# Altium integrated library Microchip Microcontroller 8-Bit PIC16 2.IntLib: 1656 symbols (part 26 of 56)
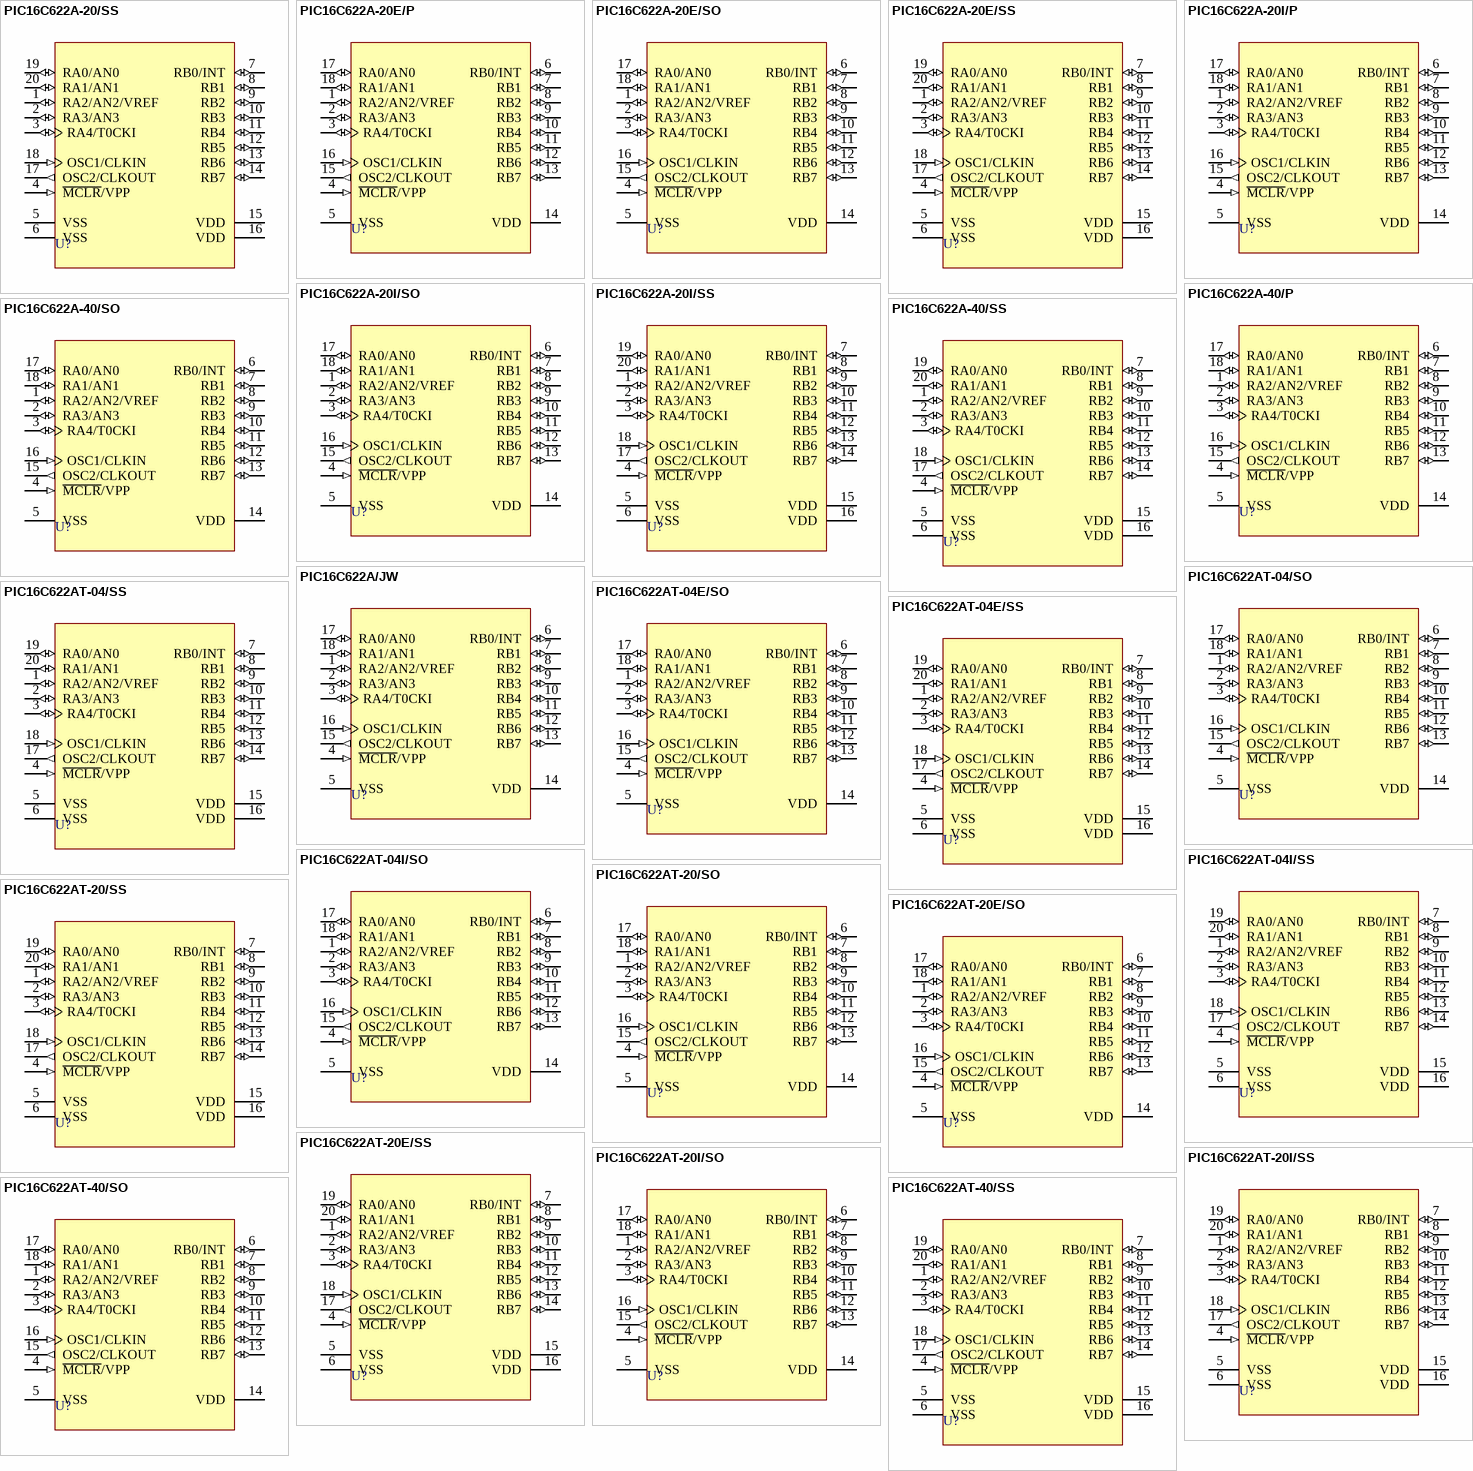
[diagram p133: symbols PIC16C622A-20/SS to PIC16C622AT-40/SS]

## PIC16C622AT-40/SS
designator U?
EPROM-Based 8-Bit CMOS Microcontroller, 128 Bytes RAM, 13 I/O pins, 20-Pin SSOP, 4.5 to 5.5V Supply Range, Commercial Temperature, Tape and Reel; Note: Verify oscillator characteristics if changing from this device to another.; Note: All PIC16C62X Family devices use serial programming with clock pin RB6 and data pin RB7.; Published: 11-Oct-2004; LatestRevisionDate: 04-Mar-2005; LatestRevisionNote: Stylized 3D Model Added.; DatasheetVersion: DS30235J_2003; PackageVersion: 2003; PackageReference: SSOP-20; Publisher: Altium Limited; PackageDescription: SSOP, Plastic; 20 Leads; Body Width 5.3 mm; Pitch 0.65 mm; Code_JEDEC: MO-150; ComponentLink1Description: Manufacturer Link; ComponentLink1URL: http://www.microchip.com; ComponentLink2Description: Datasheet; ComponentLink2URL: http://ww1.microchip.com/downloads/en/DeviceDoc/30235j.pdf; ComponentLink3Description: Packaging Specification; ComponentLink3URL: http://ww1.microchip.com/downloads/en/PackagingSpec/00049AD.pdf
footprint SSOP-20 (SSOP, Plastic; 20 Leads; Body Width 5.3 mm; Pitch 0.65 mm)
3D model SSOP-20 (SSOP, Plastic; 20 Leads; Body Width 5.3 mm; Pitch 0.65 mm)
pins: 1 RA2/AN2/VREF (io), 2 RA3/AN3 (io), 3 RA4/T0CKI (io), 4 ~{MCLR}/VPP (in), 5 VSS (power), 6 VSS (power), 7 RB0/INT (io), 8 RB1 (io), 9 RB2 (io), 10 RB3 (io), 11 RB4 (io), 12 RB5 (io), 13 RB6 (io), 14 RB7 (io), 15 VDD (power), 16 VDD (power), 17 OSC2/CLKOUT (out), 18 OSC1/CLKIN (in), 19 RA0/AN0 (io), 20 RA1/AN1 (io)

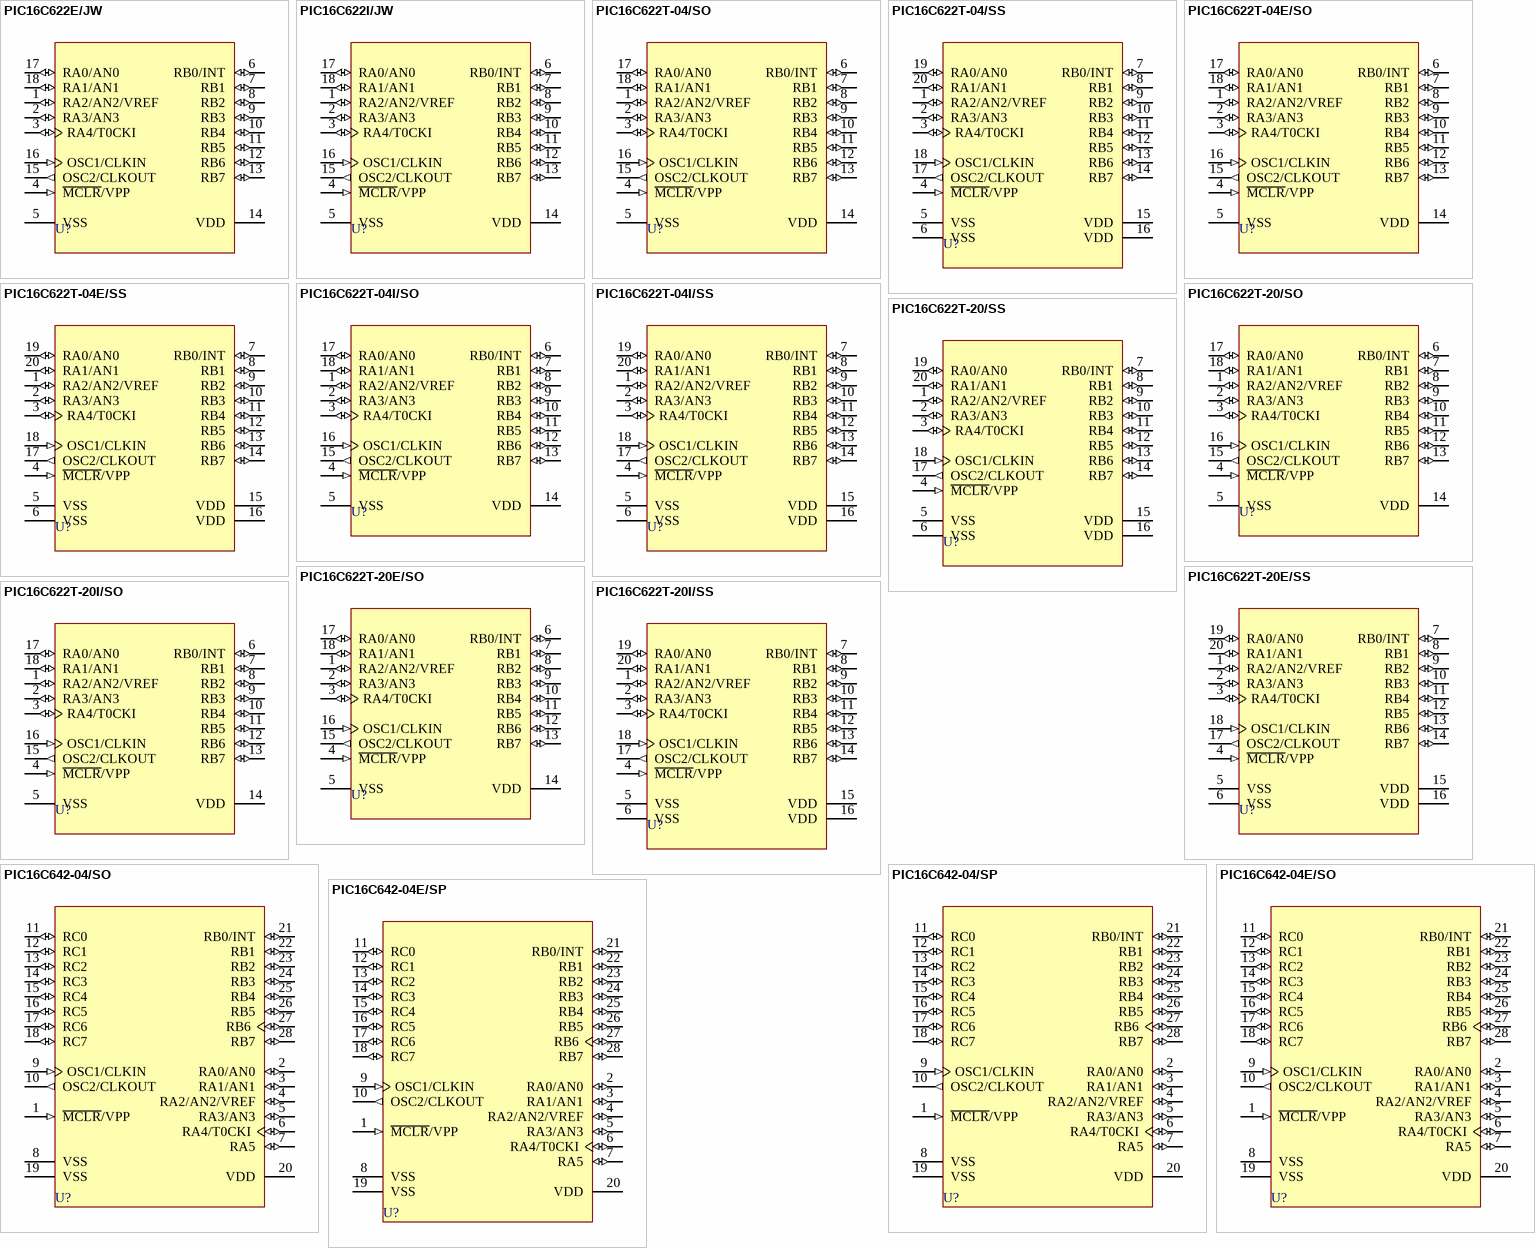
[diagram p47: symbols PIC16C622E/JW to PIC16C642-04E/SP]

## PIC16C622E/JW
designator U?
EPROM-Based 8-Bit CMOS Microcontroller; Note: Not recommended for new designs. Consider PIC16C622A instead.; Published: 8-Jun-2000; LatestRevisionDate: 04-Mar-2005; LatestRevisionNote: Stylized 3D Model Added.; DatasheetVersion: DS30235G_1998; PackageVersion: 2003; PackageReference: CERDIP300W-18; Publisher: Altium Limited; PackageDescription: CerDIP, Window; 18 Leads; Row Spacing 7.62 mm; Pitch 2.54 mm; Code_JEDEC: MO-036; ComponentLink1Description: Manufacturer Link; ComponentLink1URL: http://www.microchip.com; ComponentLink2Description: Datasheet; ComponentLink2URL: http://ww1.microchip.com/downloads/en/DeviceDoc/30235j.pdf; ComponentLink3Description: Packaging Specification; ComponentLink3URL: http://ww1.microchip.com/downloads/en/PackagingSpec/00049AD.pdf
footprint CERDIP300W-18 (CerDIP, Window; 18 Leads; Row Spacing 7.62 mm; Pitch 2.54 mm)
3D model CERDIP300W-18 (CerDIP, Window; 18 Leads; Row Spacing 7.62 mm; Pitch 2.54 mm)
pins: 1 RA2/AN2/VREF (io), 2 RA3/AN3 (io), 3 RA4/T0CKI (io), 4 ~{MCLR}/VPP (in), 5 VSS (power), 6 RB0/INT (io), 7 RB1 (io), 8 RB2 (io), 9 RB3 (io), 10 RB4 (io), 11 RB5 (io), 12 RB6 (io), 13 RB7 (io), 14 VDD (power), 15 OSC2/CLKOUT (out), 16 OSC1/CLKIN (in), 17 RA0/AN0 (io), 18 RA1/AN1 (io)

## PIC16C622I/JW
designator U?
EPROM-Based 8-Bit CMOS Microcontroller; Note: Not recommended for new designs. Consider PIC16C622A instead.; Published: 8-Jun-2000; LatestRevisionDate: 04-Mar-2005; LatestRevisionNote: Stylized 3D Model Added.; DatasheetVersion: DS30235G_1998; PackageVersion: 2003; PackageReference: CERDIP300W-18; Publisher: Altium Limited; PackageDescription: CerDIP, Window; 18 Leads; Row Spacing 7.62 mm; Pitch 2.54 mm; Code_JEDEC: MO-036; ComponentLink1Description: Manufacturer Link; ComponentLink1URL: http://www.microchip.com; ComponentLink2Description: Datasheet; ComponentLink2URL: http://ww1.microchip.com/downloads/en/DeviceDoc/30235j.pdf; ComponentLink3Description: Packaging Specification; ComponentLink3URL: http://ww1.microchip.com/downloads/en/PackagingSpec/00049AD.pdf
footprint CERDIP300W-18 (CerDIP, Window; 18 Leads; Row Spacing 7.62 mm; Pitch 2.54 mm)
3D model CERDIP300W-18 (CerDIP, Window; 18 Leads; Row Spacing 7.62 mm; Pitch 2.54 mm)
pins: 1 RA2/AN2/VREF (io), 2 RA3/AN3 (io), 3 RA4/T0CKI (io), 4 ~{MCLR}/VPP (in), 5 VSS (power), 6 RB0/INT (io), 7 RB1 (io), 8 RB2 (io), 9 RB3 (io), 10 RB4 (io), 11 RB5 (io), 12 RB6 (io), 13 RB7 (io), 14 VDD (power), 15 OSC2/CLKOUT (out), 16 OSC1/CLKIN (in), 17 RA0/AN0 (io), 18 RA1/AN1 (io)

## PIC16C622T-04/SO
designator U?
EPROM-Based 8-Bit CMOS Microcontroller, 128 Bytes RAM, 13 I/O pins, 18-Pin SOIC, 3.0 to 6.0V Supply Range, Commercial Temperature, Tape and Reel; Note: Verify oscillator characteristics if changing from this device to another.; Note: All PIC16C62X Family devices use serial programming with clock pin RB6 and data pin RB7.; Note: Not recommended for new designs. Consider PIC16C622A instead.; Published: 11-Oct-2004; LatestRevisionDate: 13-Apr-2006; LatestRevisionNote: IPC-7351 Footprint Added.; DatasheetVersion: DS30235J_2003; PackageVersion: 2003; PackageReference: SOIC300-18; Publisher: Altium Limited; PackageDescription: 18-Pin Small Outline Integrated Circuit 1.27 mm Pitch; Code_JEDEC: MS-013; ComponentLink1Description: Manufacturer Link; ComponentLink1URL: http://www.microchip.com; ComponentLink2Description: Datasheet; ComponentLink2URL: http://ww1.microchip.com/downloads/en/DeviceDoc/30235j.pdf; ComponentLink3Description: Packaging Specification; ComponentLink3URL: http://ww1.microchip.com/downloads/en/PackagingSpec/00049AD.pdf
footprint SOIC300-18_N (SOIC, 18-Leads, Body 11.5x7.5mm, Pitch 1.27mm, IPC Medium Density)
footprint SOIC300-18_L (SOIC, 18-Leads, Body 11.5x7.5mm, Pitch 1.27mm, IPC High Density)
footprint SOIC300-18_M (SOIC, 18-Leads, Body 11.5x7.5mm, Pitch 1.27mm, IPC Low Density)
3D model SOIC300-18 (18-Pin Small Outline Integrated Circuit 1.27 mm Pitch)
pins: 1 RA2/AN2/VREF (io), 2 RA3/AN3 (io), 3 RA4/T0CKI (io), 4 ~{MCLR}/VPP (in), 5 VSS (power), 6 RB0/INT (io), 7 RB1 (io), 8 RB2 (io), 9 RB3 (io), 10 RB4 (io), 11 RB5 (io), 12 RB6 (io), 13 RB7 (io), 14 VDD (power), 15 OSC2/CLKOUT (out), 16 OSC1/CLKIN (in), 17 RA0/AN0 (io), 18 RA1/AN1 (io)

## PIC16C622T-04/SS
designator U?
EPROM-Based 8-Bit CMOS Microcontroller, 128 Bytes RAM, 13 I/O pins, 20-Pin SSOP, 3.0 to 6.0V Supply Range, Commercial Temperature, Tape and Reel; Note: Verify oscillator characteristics if changing from this device to another.; Note: All PIC16C62X Family devices use serial programming with clock pin RB6 and data pin RB7.; Note: Not recommended for new designs. Consider PIC16C622A instead.; Published: 11-Oct-2004; LatestRevisionDate: 04-Mar-2005; LatestRevisionNote: Stylized 3D Model Added.; DatasheetVersion: DS30235J_2003; PackageVersion: 2003; PackageReference: SSOP-20; Publisher: Altium Limited; PackageDescription: SSOP, Plastic; 20 Leads; Body Width 5.3 mm; Pitch 0.65 mm; Code_JEDEC: MO-150; ComponentLink1Description: Manufacturer Link; ComponentLink1URL: http://www.microchip.com; ComponentLink2Description: Datasheet; ComponentLink2URL: http://ww1.microchip.com/downloads/en/DeviceDoc/30235j.pdf; ComponentLink3Description: Packaging Specification; ComponentLink3URL: http://ww1.microchip.com/downloads/en/PackagingSpec/00049AD.pdf
footprint SSOP-20 (SSOP, Plastic; 20 Leads; Body Width 5.3 mm; Pitch 0.65 mm)
3D model SSOP-20 (SSOP, Plastic; 20 Leads; Body Width 5.3 mm; Pitch 0.65 mm)
pins: 1 RA2/AN2/VREF (io), 2 RA3/AN3 (io), 3 RA4/T0CKI (io), 4 ~{MCLR}/VPP (in), 5 VSS (power), 6 VSS (power), 7 RB0/INT (io), 8 RB1 (io), 9 RB2 (io), 10 RB3 (io), 11 RB4 (io), 12 RB5 (io), 13 RB6 (io), 14 RB7 (io), 15 VDD (power), 16 VDD (power), 17 OSC2/CLKOUT (out), 18 OSC1/CLKIN (in), 19 RA0/AN0 (io), 20 RA1/AN1 (io)

## PIC16C622T-04E/SO
designator U?
EPROM-Based 8-Bit CMOS Microcontroller, 128 Bytes RAM, 13 I/O pins, 18-Pin SOIC, 3.0 to 6.0V Supply Range, Extended Temperature, Tape and Reel; Note: Verify oscillator characteristics if changing from this device to another.; Note: All PIC16C62X Family devices use serial programming with clock pin RB6 and data pin RB7.; Note: Not recommended for new designs. Consider PIC16C622A instead.; Published: 11-Oct-2004; LatestRevisionDate: 13-Apr-2006; LatestRevisionNote: IPC-7351 Footprint Added.; DatasheetVersion: DS30235J_2003; PackageVersion: 2003; PackageReference: SOIC300-18; Publisher: Altium Limited; PackageDescription: 18-Pin Small Outline Integrated Circuit 1.27 mm Pitch; Code_JEDEC: MS-013; ComponentLink1Description: Manufacturer Link; ComponentLink1URL: http://www.microchip.com; ComponentLink2Description: Datasheet; ComponentLink2URL: http://ww1.microchip.com/downloads/en/DeviceDoc/30235j.pdf; ComponentLink3Description: Packaging Specification; ComponentLink3URL: http://ww1.microchip.com/downloads/en/PackagingSpec/00049AD.pdf
footprint SOIC300-18_N (SOIC, 18-Leads, Body 11.5x7.5mm, Pitch 1.27mm, IPC Medium Density)
footprint SOIC300-18_L (SOIC, 18-Leads, Body 11.5x7.5mm, Pitch 1.27mm, IPC High Density)
footprint SOIC300-18_M (SOIC, 18-Leads, Body 11.5x7.5mm, Pitch 1.27mm, IPC Low Density)
3D model SOIC300-18 (18-Pin Small Outline Integrated Circuit 1.27 mm Pitch)
pins: 1 RA2/AN2/VREF (io), 2 RA3/AN3 (io), 3 RA4/T0CKI (io), 4 ~{MCLR}/VPP (in), 5 VSS (power), 6 RB0/INT (io), 7 RB1 (io), 8 RB2 (io), 9 RB3 (io), 10 RB4 (io), 11 RB5 (io), 12 RB6 (io), 13 RB7 (io), 14 VDD (power), 15 OSC2/CLKOUT (out), 16 OSC1/CLKIN (in), 17 RA0/AN0 (io), 18 RA1/AN1 (io)

## PIC16C622T-04E/SS
designator U?
EPROM-Based 8-Bit CMOS Microcontroller, 128 Bytes RAM, 13 I/O pins, 20-Pin SSOP, 3.0 to 6.0V Supply Range, Extended Temperature, Tape and Reel; Note: Verify oscillator characteristics if changing from this device to another.; Note: All PIC16C62X Family devices use serial programming with clock pin RB6 and data pin RB7.; Note: Not recommended for new designs. Consider PIC16C622A instead.; Published: 11-Oct-2004; LatestRevisionDate: 04-Mar-2005; LatestRevisionNote: Stylized 3D Model Added.; DatasheetVersion: DS30235J_2003; PackageVersion: 2003; PackageReference: SSOP-20; Publisher: Altium Limited; PackageDescription: SSOP, Plastic; 20 Leads; Body Width 5.3 mm; Pitch 0.65 mm; Code_JEDEC: MO-150; ComponentLink1Description: Manufacturer Link; ComponentLink1URL: http://www.microchip.com; ComponentLink2Description: Datasheet; ComponentLink2URL: http://ww1.microchip.com/downloads/en/DeviceDoc/30235j.pdf; ComponentLink3Description: Packaging Specification; ComponentLink3URL: http://ww1.microchip.com/downloads/en/PackagingSpec/00049AD.pdf
footprint SSOP-20 (SSOP, Plastic; 20 Leads; Body Width 5.3 mm; Pitch 0.65 mm)
3D model SSOP-20 (SSOP, Plastic; 20 Leads; Body Width 5.3 mm; Pitch 0.65 mm)
pins: 1 RA2/AN2/VREF (io), 2 RA3/AN3 (io), 3 RA4/T0CKI (io), 4 ~{MCLR}/VPP (in), 5 VSS (power), 6 VSS (power), 7 RB0/INT (io), 8 RB1 (io), 9 RB2 (io), 10 RB3 (io), 11 RB4 (io), 12 RB5 (io), 13 RB6 (io), 14 RB7 (io), 15 VDD (power), 16 VDD (power), 17 OSC2/CLKOUT (out), 18 OSC1/CLKIN (in), 19 RA0/AN0 (io), 20 RA1/AN1 (io)

## PIC16C622T-04I/SO
designator U?
EPROM-Based 8-Bit CMOS Microcontroller, 128 Bytes RAM, 13 I/O pins, 18-Pin SOIC, 3.0 to 6.0V Supply Range, Industrial Temperature, Tape and Reel; Note: Verify oscillator characteristics if changing from this device to another.; Note: All PIC16C62X Family devices use serial programming with clock pin RB6 and data pin RB7.; Note: Not recommended for new designs. Consider PIC16C622A instead.; Published: 11-Oct-2004; LatestRevisionDate: 13-Apr-2006; LatestRevisionNote: IPC-7351 Footprint Added.; DatasheetVersion: DS30235J_2003; PackageVersion: 2003; PackageReference: SOIC300-18; Publisher: Altium Limited; PackageDescription: 18-Pin Small Outline Integrated Circuit 1.27 mm Pitch; Code_JEDEC: MS-013; ComponentLink1Description: Manufacturer Link; ComponentLink1URL: http://www.microchip.com; ComponentLink2Description: Datasheet; ComponentLink2URL: http://ww1.microchip.com/downloads/en/DeviceDoc/30235j.pdf; ComponentLink3Description: Packaging Specification; ComponentLink3URL: http://ww1.microchip.com/downloads/en/PackagingSpec/00049AD.pdf
footprint SOIC300-18_N (SOIC, 18-Leads, Body 11.5x7.5mm, Pitch 1.27mm, IPC Medium Density)
footprint SOIC300-18_L (SOIC, 18-Leads, Body 11.5x7.5mm, Pitch 1.27mm, IPC High Density)
footprint SOIC300-18_M (SOIC, 18-Leads, Body 11.5x7.5mm, Pitch 1.27mm, IPC Low Density)
3D model SOIC300-18 (18-Pin Small Outline Integrated Circuit 1.27 mm Pitch)
pins: 1 RA2/AN2/VREF (io), 2 RA3/AN3 (io), 3 RA4/T0CKI (io), 4 ~{MCLR}/VPP (in), 5 VSS (power), 6 RB0/INT (io), 7 RB1 (io), 8 RB2 (io), 9 RB3 (io), 10 RB4 (io), 11 RB5 (io), 12 RB6 (io), 13 RB7 (io), 14 VDD (power), 15 OSC2/CLKOUT (out), 16 OSC1/CLKIN (in), 17 RA0/AN0 (io), 18 RA1/AN1 (io)

## PIC16C622T-04I/SS
designator U?
EPROM-Based 8-Bit CMOS Microcontroller, 128 Bytes RAM, 13 I/O pins, 20-Pin SSOP, 3.0 to 6.0V Supply Range, Industrial Temperature, Tape and Reel; Note: Verify oscillator characteristics if changing from this device to another.; Note: All PIC16C62X Family devices use serial programming with clock pin RB6 and data pin RB7.; Note: Not recommended for new designs. Consider PIC16C622A instead.; Published: 11-Oct-2004; LatestRevisionDate: 04-Mar-2005; LatestRevisionNote: Stylized 3D Model Added.; DatasheetVersion: DS30235J_2003; PackageVersion: 2003; PackageReference: SSOP-20; Publisher: Altium Limited; PackageDescription: SSOP, Plastic; 20 Leads; Body Width 5.3 mm; Pitch 0.65 mm; Code_JEDEC: MO-150; ComponentLink1Description: Manufacturer Link; ComponentLink1URL: http://www.microchip.com; ComponentLink2Description: Datasheet; ComponentLink2URL: http://ww1.microchip.com/downloads/en/DeviceDoc/30235j.pdf; ComponentLink3Description: Packaging Specification; ComponentLink3URL: http://ww1.microchip.com/downloads/en/PackagingSpec/00049AD.pdf
footprint SSOP-20 (SSOP, Plastic; 20 Leads; Body Width 5.3 mm; Pitch 0.65 mm)
3D model SSOP-20 (SSOP, Plastic; 20 Leads; Body Width 5.3 mm; Pitch 0.65 mm)
pins: 1 RA2/AN2/VREF (io), 2 RA3/AN3 (io), 3 RA4/T0CKI (io), 4 ~{MCLR}/VPP (in), 5 VSS (power), 6 VSS (power), 7 RB0/INT (io), 8 RB1 (io), 9 RB2 (io), 10 RB3 (io), 11 RB4 (io), 12 RB5 (io), 13 RB6 (io), 14 RB7 (io), 15 VDD (power), 16 VDD (power), 17 OSC2/CLKOUT (out), 18 OSC1/CLKIN (in), 19 RA0/AN0 (io), 20 RA1/AN1 (io)

## PIC16C622T-20/SO
designator U?
EPROM-Based 8-Bit CMOS Microcontroller, 128 Bytes RAM, 13 I/O pins, 18-Pin SOIC, 4.5 to 6.0V Supply Range, Commercial Temperature, Tape and Reel; Note: Verify oscillator characteristics if changing from this device to another.; Note: All PIC16C62X Family devices use serial programming with clock pin RB6 and data pin RB7.; Note: Not recommended for new designs. Consider PIC16C622A instead.; Published: 11-Oct-2004; LatestRevisionDate: 13-Apr-2006; LatestRevisionNote: IPC-7351 Footprint Added.; DatasheetVersion: DS30235J_2003; PackageVersion: 2003; PackageReference: SOIC300-18; Publisher: Altium Limited; PackageDescription: 18-Pin Small Outline Integrated Circuit 1.27 mm Pitch; Code_JEDEC: MS-013; ComponentLink1Description: Manufacturer Link; ComponentLink1URL: http://www.microchip.com; ComponentLink2Description: Datasheet; ComponentLink2URL: http://ww1.microchip.com/downloads/en/DeviceDoc/30235j.pdf; ComponentLink3Description: Packaging Specification; ComponentLink3URL: http://ww1.microchip.com/downloads/en/PackagingSpec/00049AD.pdf
footprint SOIC300-18_N (SOIC, 18-Leads, Body 11.5x7.5mm, Pitch 1.27mm, IPC Medium Density)
footprint SOIC300-18_L (SOIC, 18-Leads, Body 11.5x7.5mm, Pitch 1.27mm, IPC High Density)
footprint SOIC300-18_M (SOIC, 18-Leads, Body 11.5x7.5mm, Pitch 1.27mm, IPC Low Density)
3D model SOIC300-18 (18-Pin Small Outline Integrated Circuit 1.27 mm Pitch)
pins: 1 RA2/AN2/VREF (io), 2 RA3/AN3 (io), 3 RA4/T0CKI (io), 4 ~{MCLR}/VPP (in), 5 VSS (power), 6 RB0/INT (io), 7 RB1 (io), 8 RB2 (io), 9 RB3 (io), 10 RB4 (io), 11 RB5 (io), 12 RB6 (io), 13 RB7 (io), 14 VDD (power), 15 OSC2/CLKOUT (out), 16 OSC1/CLKIN (in), 17 RA0/AN0 (io), 18 RA1/AN1 (io)

## PIC16C622T-20/SS
designator U?
EPROM-Based 8-Bit CMOS Microcontroller, 128 Bytes RAM, 13 I/O pins, 20-Pin SSOP, 4.5 to 6.0V Supply Range, Commercial Temperature, Tape and Reel; Note: Verify oscillator characteristics if changing from this device to another.; Note: All PIC16C62X Family devices use serial programming with clock pin RB6 and data pin RB7.; Note: Not recommended for new designs. Consider PIC16C622A instead.; Published: 11-Oct-2004; LatestRevisionDate: 04-Mar-2005; LatestRevisionNote: Stylized 3D Model Added.; DatasheetVersion: DS30235J_2003; PackageVersion: 2003; PackageReference: SSOP-20; Publisher: Altium Limited; PackageDescription: SSOP, Plastic; 20 Leads; Body Width 5.3 mm; Pitch 0.65 mm; Code_JEDEC: MO-150; ComponentLink1Description: Manufacturer Link; ComponentLink1URL: http://www.microchip.com; ComponentLink2Description: Datasheet; ComponentLink2URL: http://ww1.microchip.com/downloads/en/DeviceDoc/30235j.pdf; ComponentLink3Description: Packaging Specification; ComponentLink3URL: http://ww1.microchip.com/downloads/en/PackagingSpec/00049AD.pdf
footprint SSOP-20 (SSOP, Plastic; 20 Leads; Body Width 5.3 mm; Pitch 0.65 mm)
3D model SSOP-20 (SSOP, Plastic; 20 Leads; Body Width 5.3 mm; Pitch 0.65 mm)
pins: 1 RA2/AN2/VREF (io), 2 RA3/AN3 (io), 3 RA4/T0CKI (io), 4 ~{MCLR}/VPP (in), 5 VSS (power), 6 VSS (power), 7 RB0/INT (io), 8 RB1 (io), 9 RB2 (io), 10 RB3 (io), 11 RB4 (io), 12 RB5 (io), 13 RB6 (io), 14 RB7 (io), 15 VDD (power), 16 VDD (power), 17 OSC2/CLKOUT (out), 18 OSC1/CLKIN (in), 19 RA0/AN0 (io), 20 RA1/AN1 (io)

## PIC16C622T-20E/SO
designator U?
EPROM-Based 8-Bit CMOS Microcontroller, 128 Bytes RAM, 13 I/O pins, 18-Pin SOIC, 4.5 to 6.0V Supply Range, Extended Temperature, Tape and Reel; Note: Verify oscillator characteristics if changing from this device to another.; Note: All PIC16C62X Family devices use serial programming with clock pin RB6 and data pin RB7.; Note: Not recommended for new designs. Consider PIC16C622A instead.; Published: 11-Oct-2004; LatestRevisionDate: 13-Apr-2006; LatestRevisionNote: IPC-7351 Footprint Added.; DatasheetVersion: DS30235J_2003; PackageVersion: 2003; PackageReference: SOIC300-18; Publisher: Altium Limited; PackageDescription: 18-Pin Small Outline Integrated Circuit 1.27 mm Pitch; Code_JEDEC: MS-013; ComponentLink1Description: Manufacturer Link; ComponentLink1URL: http://www.microchip.com; ComponentLink2Description: Datasheet; ComponentLink2URL: http://ww1.microchip.com/downloads/en/DeviceDoc/30235j.pdf; ComponentLink3Description: Packaging Specification; ComponentLink3URL: http://ww1.microchip.com/downloads/en/PackagingSpec/00049AD.pdf
footprint SOIC300-18_N (SOIC, 18-Leads, Body 11.5x7.5mm, Pitch 1.27mm, IPC Medium Density)
footprint SOIC300-18_L (SOIC, 18-Leads, Body 11.5x7.5mm, Pitch 1.27mm, IPC High Density)
footprint SOIC300-18_M (SOIC, 18-Leads, Body 11.5x7.5mm, Pitch 1.27mm, IPC Low Density)
3D model SOIC300-18 (18-Pin Small Outline Integrated Circuit 1.27 mm Pitch)
pins: 1 RA2/AN2/VREF (io), 2 RA3/AN3 (io), 3 RA4/T0CKI (io), 4 ~{MCLR}/VPP (in), 5 VSS (power), 6 RB0/INT (io), 7 RB1 (io), 8 RB2 (io), 9 RB3 (io), 10 RB4 (io), 11 RB5 (io), 12 RB6 (io), 13 RB7 (io), 14 VDD (power), 15 OSC2/CLKOUT (out), 16 OSC1/CLKIN (in), 17 RA0/AN0 (io), 18 RA1/AN1 (io)

## PIC16C622T-20E/SS
designator U?
EPROM-Based 8-Bit CMOS Microcontroller, 128 Bytes RAM, 13 I/O pins, 20-Pin SSOP, 4.5 to 6.0V Supply Range, Extended Temperature, Tape and Reel; Note: Verify oscillator characteristics if changing from this device to another.; Note: All PIC16C62X Family devices use serial programming with clock pin RB6 and data pin RB7.; Note: Not recommended for new designs. Consider PIC16C622A instead.; Published: 11-Oct-2004; LatestRevisionDate: 04-Mar-2005; LatestRevisionNote: Stylized 3D Model Added.; DatasheetVersion: DS30235J_2003; PackageVersion: 2003; PackageReference: SSOP-20; Publisher: Altium Limited; PackageDescription: SSOP, Plastic; 20 Leads; Body Width 5.3 mm; Pitch 0.65 mm; Code_JEDEC: MO-150; ComponentLink1Description: Manufacturer Link; ComponentLink1URL: http://www.microchip.com; ComponentLink2Description: Datasheet; ComponentLink2URL: http://ww1.microchip.com/downloads/en/DeviceDoc/30235j.pdf; ComponentLink3Description: Packaging Specification; ComponentLink3URL: http://ww1.microchip.com/downloads/en/PackagingSpec/00049AD.pdf
footprint SSOP-20 (SSOP, Plastic; 20 Leads; Body Width 5.3 mm; Pitch 0.65 mm)
3D model SSOP-20 (SSOP, Plastic; 20 Leads; Body Width 5.3 mm; Pitch 0.65 mm)
pins: 1 RA2/AN2/VREF (io), 2 RA3/AN3 (io), 3 RA4/T0CKI (io), 4 ~{MCLR}/VPP (in), 5 VSS (power), 6 VSS (power), 7 RB0/INT (io), 8 RB1 (io), 9 RB2 (io), 10 RB3 (io), 11 RB4 (io), 12 RB5 (io), 13 RB6 (io), 14 RB7 (io), 15 VDD (power), 16 VDD (power), 17 OSC2/CLKOUT (out), 18 OSC1/CLKIN (in), 19 RA0/AN0 (io), 20 RA1/AN1 (io)

## PIC16C622T-20I/SO
designator U?
EPROM-Based 8-Bit CMOS Microcontroller, 128 Bytes RAM, 13 I/O pins, 18-Pin SOIC, 4.5 to 6.0V Supply Range, Industrial Temperature, Tape and Reel; Note: Verify oscillator characteristics if changing from this device to another.; Note: All PIC16C62X Family devices use serial programming with clock pin RB6 and data pin RB7.; Note: Not recommended for new designs. Consider PIC16C622A instead.; Published: 11-Oct-2004; LatestRevisionDate: 13-Apr-2006; LatestRevisionNote: IPC-7351 Footprint Added.; DatasheetVersion: DS30235J_2003; PackageVersion: 2003; PackageReference: SOIC300-18; Publisher: Altium Limited; PackageDescription: 18-Pin Small Outline Integrated Circuit 1.27 mm Pitch; Code_JEDEC: MS-013; ComponentLink1Description: Manufacturer Link; ComponentLink1URL: http://www.microchip.com; ComponentLink2Description: Datasheet; ComponentLink2URL: http://ww1.microchip.com/downloads/en/DeviceDoc/30235j.pdf; ComponentLink3Description: Packaging Specification; ComponentLink3URL: http://ww1.microchip.com/downloads/en/PackagingSpec/00049AD.pdf
footprint SOIC300-18_N (SOIC, 18-Leads, Body 11.5x7.5mm, Pitch 1.27mm, IPC Medium Density)
footprint SOIC300-18_L (SOIC, 18-Leads, Body 11.5x7.5mm, Pitch 1.27mm, IPC High Density)
footprint SOIC300-18_M (SOIC, 18-Leads, Body 11.5x7.5mm, Pitch 1.27mm, IPC Low Density)
3D model SOIC300-18 (18-Pin Small Outline Integrated Circuit 1.27 mm Pitch)
pins: 1 RA2/AN2/VREF (io), 2 RA3/AN3 (io), 3 RA4/T0CKI (io), 4 ~{MCLR}/VPP (in), 5 VSS (power), 6 RB0/INT (io), 7 RB1 (io), 8 RB2 (io), 9 RB3 (io), 10 RB4 (io), 11 RB5 (io), 12 RB6 (io), 13 RB7 (io), 14 VDD (power), 15 OSC2/CLKOUT (out), 16 OSC1/CLKIN (in), 17 RA0/AN0 (io), 18 RA1/AN1 (io)

## PIC16C622T-20I/SS
designator U?
EPROM-Based 8-Bit CMOS Microcontroller, 128 Bytes RAM, 13 I/O pins, 20-Pin SSOP, 4.5 to 6.0V Supply Range, Industrial Temperature, Tape and Reel; Note: Verify oscillator characteristics if changing from this device to another.; Note: All PIC16C62X Family devices use serial programming with clock pin RB6 and data pin RB7.; Note: Not recommended for new designs. Consider PIC16C622A instead.; Published: 11-Oct-2004; LatestRevisionDate: 04-Mar-2005; LatestRevisionNote: Stylized 3D Model Added.; DatasheetVersion: DS30235J_2003; PackageVersion: 2003; PackageReference: SSOP-20; Publisher: Altium Limited; PackageDescription: SSOP, Plastic; 20 Leads; Body Width 5.3 mm; Pitch 0.65 mm; Code_JEDEC: MO-150; ComponentLink1Description: Manufacturer Link; ComponentLink1URL: http://www.microchip.com; ComponentLink2Description: Datasheet; ComponentLink2URL: http://ww1.microchip.com/downloads/en/DeviceDoc/30235j.pdf; ComponentLink3Description: Packaging Specification; ComponentLink3URL: http://ww1.microchip.com/downloads/en/PackagingSpec/00049AD.pdf
footprint SSOP-20 (SSOP, Plastic; 20 Leads; Body Width 5.3 mm; Pitch 0.65 mm)
3D model SSOP-20 (SSOP, Plastic; 20 Leads; Body Width 5.3 mm; Pitch 0.65 mm)
pins: 1 RA2/AN2/VREF (io), 2 RA3/AN3 (io), 3 RA4/T0CKI (io), 4 ~{MCLR}/VPP (in), 5 VSS (power), 6 VSS (power), 7 RB0/INT (io), 8 RB1 (io), 9 RB2 (io), 10 RB3 (io), 11 RB4 (io), 12 RB5 (io), 13 RB6 (io), 14 RB7 (io), 15 VDD (power), 16 VDD (power), 17 OSC2/CLKOUT (out), 18 OSC1/CLKIN (in), 19 RA0/AN0 (io), 20 RA1/AN1 (io)

## PIC16C642-04/SO
designator U?
8-Bit EPROM Microcontroller with Analog Comparators, 176 Bytes RAM, 22 I/O Pins, 4 MHz, 28-Pin SOIC, Standard VDD Range, Commercial Temperature; Note: Not recommended for new designs. Consider PIC16F72 instead.; Published: 11-Oct-2004; LatestRevisionDate: 13-Apr-2006; LatestRevisionNote: IPC-7351 Footprint Added.; DatasheetVersion: DS30559A_1996; PackageVersion: 2005; PackageReference: SOIC300-28; Publisher: Altium Limited; PackageDescription: 28-Pin Small Outline Integrated Circuit 1.27 mm Pitch; Code_JEDEC: MS-013; ComponentLink1Description: Manufacturer Link; ComponentLink1URL: http://www.microchip.com; ComponentLink2Description: Datasheet; ComponentLink2URL: http://ww1.microchip.com/downloads/en/DeviceDoc/30559a.pdf; ComponentLink3Description: Packaging Specification; ComponentLink3URL: http://ww1.microchip.com/downloads/en/PackagingSpec/00049AD.pdf
footprint SOIC300-28_N (SOIC, 28-Leads, Body 17.9x7.5mm, Pitch 1.27mm, IPC Medium Density)
footprint SOIC300-28_L (SOIC, 28-Leads, Body 17.9x7.5mm, Pitch 1.27mm, IPC High Density)
footprint SOIC300-28_M (SOIC, 28-Leads, Body 17.9x7.5mm, Pitch 1.27mm, IPC Low Density)
3D model SOIC300-28 (28-Pin Small Outline Integrated Circuit 1.27 mm Pitch)
pins: 1 ~{MCLR}/VPP (in), 2 RA0/AN0 (io), 3 RA1/AN1 (io), 4 RA2/AN2/VREF (io), 5 RA3/AN3 (io), 6 RA4/T0CKI (io), 7 RA5 (io), 8 VSS (power), 9 OSC1/CLKIN (in), 10 OSC2/CLKOUT (out), 11 RC0 (io), 12 RC1 (io), 13 RC2 (io), 14 RC3 (io), 15 RC4 (io), 16 RC5 (io), 17 RC6 (io), 18 RC7 (io), 19 VSS (power), 20 VDD (power), 21 RB0/INT (io), 22 RB1 (io), 23 RB2 (io), 24 RB3 (io), 25 RB4 (io), 26 RB5 (io), 27 RB6 (io), 28 RB7 (io)

## PIC16C642-04/SP
designator U?
8-Bit EPROM Microcontroller with Analog Comparators, 176 Bytes RAM, 22 I/O Pins, 4 MHz, 28-Pin PDIP 300mil, Standard VDD Range, Commercial Temperature; Note: Not recommended for new designs. Consider PIC16F72 instead.; Published: 11-Oct-2004; LatestRevisionDate: 04-Mar-2005; LatestRevisionNote: Stylized 3D Model Added.; DatasheetVersion: DS30559A_1996; PackageVersion: 2003; PackageReference: PDIP300-28; Publisher: Altium Limited; PackageDescription: DIP, Plastic, Skinny; 28 Leads; Row Spacing 7.62 mm; Pitch 2.54 mm; Code_JEDEC: MO-095; ComponentLink1Description: Manufacturer Link; ComponentLink1URL: http://www.microchip.com; ComponentLink2Description: Datasheet; ComponentLink2URL: http://ww1.microchip.com/downloads/en/DeviceDoc/30559a.pdf; ComponentLink3Description: Packaging Specification; ComponentLink3URL: http://ww1.microchip.com/downloads/en/PackagingSpec/00049AD.pdf
footprint PDIP300-28 (DIP, Plastic, Skinny; 28 Leads; Row Spacing 7.62 mm; Pitch 2.54 mm)
3D model PDIP300-28 (DIP, Plastic, Skinny; 28 Leads; Row Spacing 7.62 mm; Pitch 2.54 mm)
pins: 1 ~{MCLR}/VPP (in), 2 RA0/AN0 (io), 3 RA1/AN1 (io), 4 RA2/AN2/VREF (io), 5 RA3/AN3 (io), 6 RA4/T0CKI (io), 7 RA5 (io), 8 VSS (power), 9 OSC1/CLKIN (in), 10 OSC2/CLKOUT (out), 11 RC0 (io), 12 RC1 (io), 13 RC2 (io), 14 RC3 (io), 15 RC4 (io), 16 RC5 (io), 17 RC6 (io), 18 RC7 (io), 19 VSS (power), 20 VDD (power), 21 RB0/INT (io), 22 RB1 (io), 23 RB2 (io), 24 RB3 (io), 25 RB4 (io), 26 RB5 (io), 27 RB6 (io), 28 RB7 (io)

## PIC16C642-04E/SO
designator U?
8-Bit EPROM Microcontroller with Analog Comparators, 176 Bytes RAM, 22 I/O Pins, 4 MHz, 28-Pin SOIC, Standard VDD Range, Extended Temperature; Note: Not recommended for new designs. Consider PIC16F72 instead.; Published: 11-Oct-2004; LatestRevisionDate: 13-Apr-2006; LatestRevisionNote: IPC-7351 Footprint Added.; DatasheetVersion: DS30559A_1996; PackageVersion: 2005; PackageReference: SOIC300-28; Publisher: Altium Limited; PackageDescription: 28-Pin Small Outline Integrated Circuit 1.27 mm Pitch; Code_JEDEC: MS-013; ComponentLink1Description: Manufacturer Link; ComponentLink1URL: http://www.microchip.com; ComponentLink2Description: Datasheet; ComponentLink2URL: http://ww1.microchip.com/downloads/en/DeviceDoc/30559a.pdf; ComponentLink3Description: Packaging Specification; ComponentLink3URL: http://ww1.microchip.com/downloads/en/PackagingSpec/00049AD.pdf
footprint SOIC300-28_N (SOIC, 28-Leads, Body 17.9x7.5mm, Pitch 1.27mm, IPC Medium Density)
footprint SOIC300-28_L (SOIC, 28-Leads, Body 17.9x7.5mm, Pitch 1.27mm, IPC High Density)
footprint SOIC300-28_M (SOIC, 28-Leads, Body 17.9x7.5mm, Pitch 1.27mm, IPC Low Density)
3D model SOIC300-28 (28-Pin Small Outline Integrated Circuit 1.27 mm Pitch)
pins: 1 ~{MCLR}/VPP (in), 2 RA0/AN0 (io), 3 RA1/AN1 (io), 4 RA2/AN2/VREF (io), 5 RA3/AN3 (io), 6 RA4/T0CKI (io), 7 RA5 (io), 8 VSS (power), 9 OSC1/CLKIN (in), 10 OSC2/CLKOUT (out), 11 RC0 (io), 12 RC1 (io), 13 RC2 (io), 14 RC3 (io), 15 RC4 (io), 16 RC5 (io), 17 RC6 (io), 18 RC7 (io), 19 VSS (power), 20 VDD (power), 21 RB0/INT (io), 22 RB1 (io), 23 RB2 (io), 24 RB3 (io), 25 RB4 (io), 26 RB5 (io), 27 RB6 (io), 28 RB7 (io)

## PIC16C642-04E/SP
designator U?
8-Bit EPROM Microcontroller with Analog Comparators, 176 Bytes RAM, 22 I/O Pins, 4 MHz, 28-Pin PDIP 300mil, Standard VDD Range, Extended Temperature; Note: Not recommended for new designs. Consider PIC16F72 instead.; Published: 11-Oct-2004; LatestRevisionDate: 04-Mar-2005; LatestRevisionNote: Stylized 3D Model Added.; DatasheetVersion: DS30559A_1996; PackageVersion: 2003; PackageReference: PDIP300-28; Publisher: Altium Limited; PackageDescription: DIP, Plastic, Skinny; 28 Leads; Row Spacing 7.62 mm; Pitch 2.54 mm; Code_JEDEC: MO-095; ComponentLink1Description: Manufacturer Link; ComponentLink1URL: http://www.microchip.com; ComponentLink2Description: Datasheet; ComponentLink2URL: http://ww1.microchip.com/downloads/en/DeviceDoc/30559a.pdf; ComponentLink3Description: Packaging Specification; ComponentLink3URL: http://ww1.microchip.com/downloads/en/PackagingSpec/00049AD.pdf
footprint PDIP300-28 (DIP, Plastic, Skinny; 28 Leads; Row Spacing 7.62 mm; Pitch 2.54 mm)
3D model PDIP300-28 (DIP, Plastic, Skinny; 28 Leads; Row Spacing 7.62 mm; Pitch 2.54 mm)
pins: 1 ~{MCLR}/VPP (in), 2 RA0/AN0 (io), 3 RA1/AN1 (io), 4 RA2/AN2/VREF (io), 5 RA3/AN3 (io), 6 RA4/T0CKI (io), 7 RA5 (io), 8 VSS (power), 9 OSC1/CLKIN (in), 10 OSC2/CLKOUT (out), 11 RC0 (io), 12 RC1 (io), 13 RC2 (io), 14 RC3 (io), 15 RC4 (io), 16 RC5 (io), 17 RC6 (io), 18 RC7 (io), 19 VSS (power), 20 VDD (power), 21 RB0/INT (io), 22 RB1 (io), 23 RB2 (io), 24 RB3 (io), 25 RB4 (io), 26 RB5 (io), 27 RB6 (io), 28 RB7 (io)

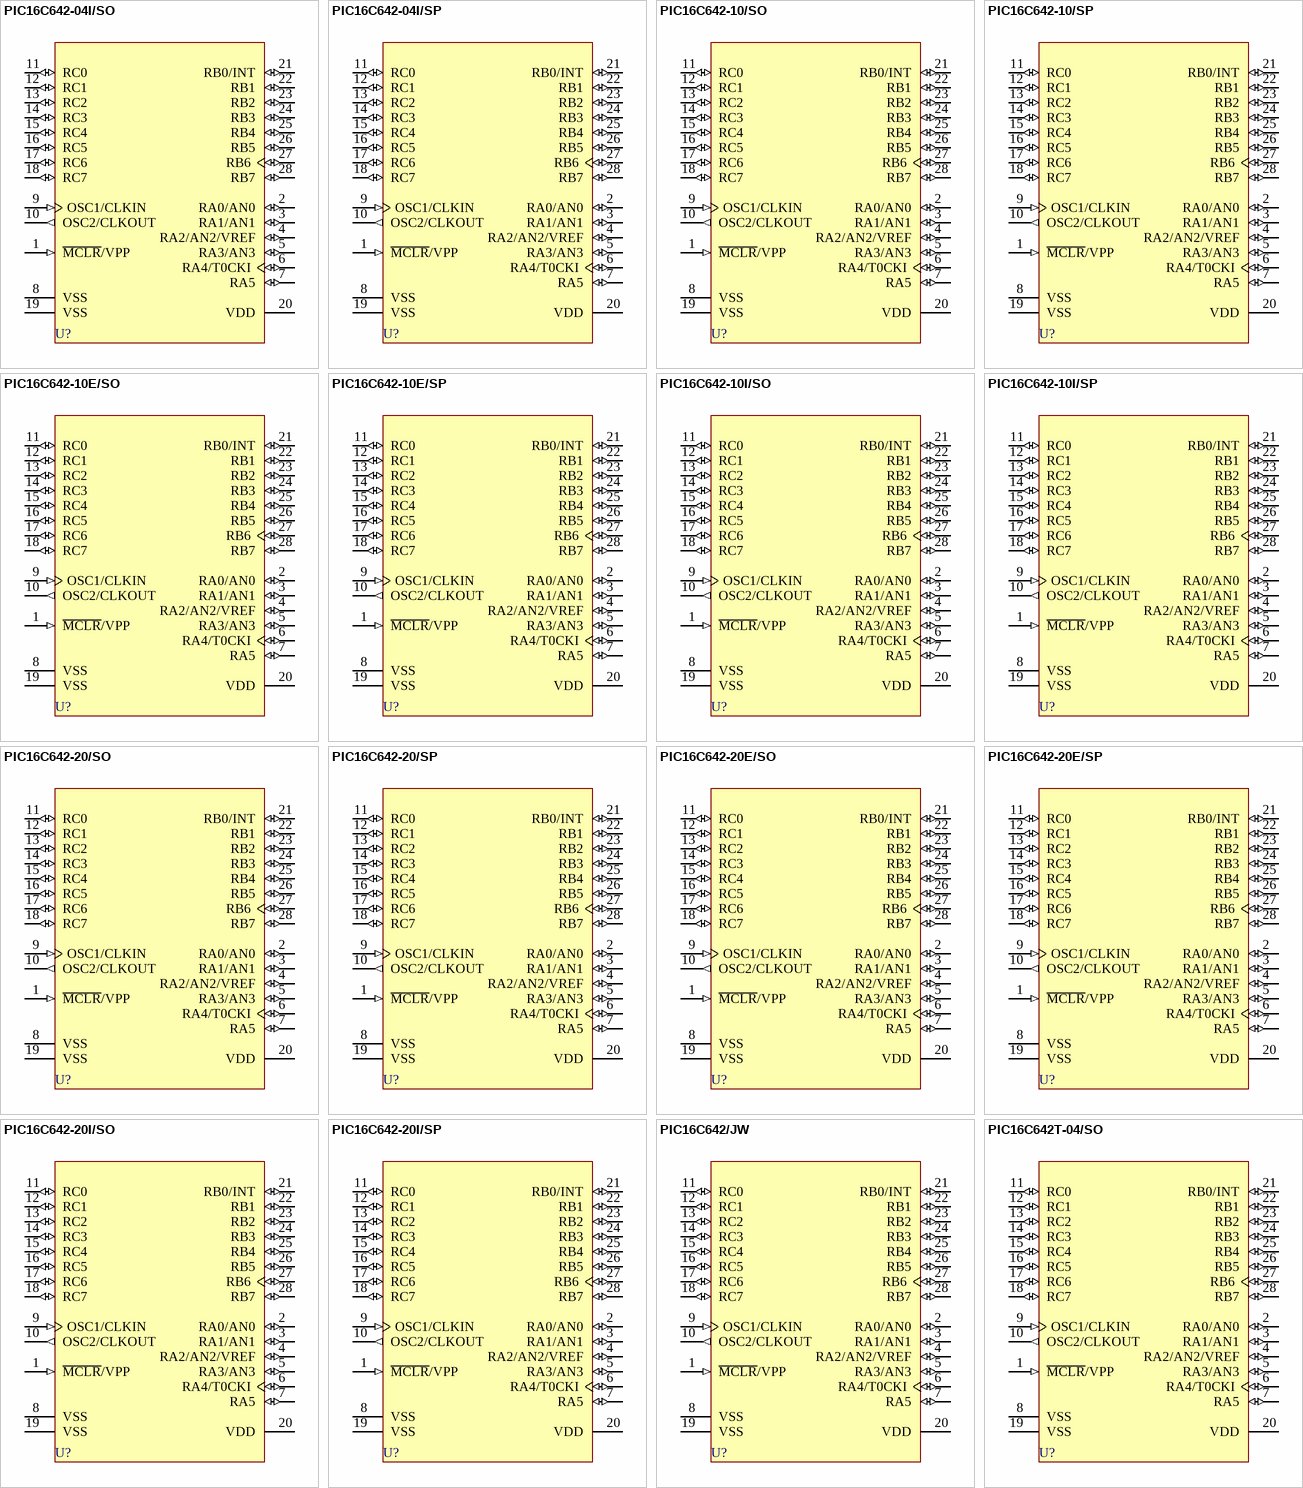
[diagram p48: symbols PIC16C642-04I/SO to PIC16C642T-04/SO]

## PIC16C642-04I/SO
designator U?
8-Bit EPROM Microcontroller with Analog Comparators, 176 Bytes RAM, 22 I/O Pins, 4 MHz, 28-Pin SOIC, Standard VDD Range, Industrial Temperature; Note: Not recommended for new designs. Consider PIC16F72 instead.; Published: 11-Oct-2004; LatestRevisionDate: 13-Apr-2006; LatestRevisionNote: IPC-7351 Footprint Added.; DatasheetVersion: DS30559A_1996; PackageVersion: 2005; PackageReference: SOIC300-28; Publisher: Altium Limited; PackageDescription: 28-Pin Small Outline Integrated Circuit 1.27 mm Pitch; Code_JEDEC: MS-013; ComponentLink1Description: Manufacturer Link; ComponentLink1URL: http://www.microchip.com; ComponentLink2Description: Datasheet; ComponentLink2URL: http://ww1.microchip.com/downloads/en/DeviceDoc/30559a.pdf; ComponentLink3Description: Packaging Specification; ComponentLink3URL: http://ww1.microchip.com/downloads/en/PackagingSpec/00049AD.pdf
footprint SOIC300-28_N (SOIC, 28-Leads, Body 17.9x7.5mm, Pitch 1.27mm, IPC Medium Density)
footprint SOIC300-28_L (SOIC, 28-Leads, Body 17.9x7.5mm, Pitch 1.27mm, IPC High Density)
footprint SOIC300-28_M (SOIC, 28-Leads, Body 17.9x7.5mm, Pitch 1.27mm, IPC Low Density)
3D model SOIC300-28 (28-Pin Small Outline Integrated Circuit 1.27 mm Pitch)
pins: 1 ~{MCLR}/VPP (in), 2 RA0/AN0 (io), 3 RA1/AN1 (io), 4 RA2/AN2/VREF (io), 5 RA3/AN3 (io), 6 RA4/T0CKI (io), 7 RA5 (io), 8 VSS (power), 9 OSC1/CLKIN (in), 10 OSC2/CLKOUT (out), 11 RC0 (io), 12 RC1 (io), 13 RC2 (io), 14 RC3 (io), 15 RC4 (io), 16 RC5 (io), 17 RC6 (io), 18 RC7 (io), 19 VSS (power), 20 VDD (power), 21 RB0/INT (io), 22 RB1 (io), 23 RB2 (io), 24 RB3 (io), 25 RB4 (io), 26 RB5 (io), 27 RB6 (io), 28 RB7 (io)

## PIC16C642-04I/SP
designator U?
8-Bit EPROM Microcontroller with Analog Comparators, 176 Bytes RAM, 22 I/O Pins, 4 MHz, 28-Pin PDIP 300mil, Standard VDD Range, Industrial Temperature; Note: Not recommended for new designs. Consider PIC16F72 instead.; Published: 11-Oct-2004; LatestRevisionDate: 04-Mar-2005; LatestRevisionNote: Stylized 3D Model Added.; DatasheetVersion: DS30559A_1996; PackageVersion: 2003; PackageReference: PDIP300-28; Publisher: Altium Limited; PackageDescription: DIP, Plastic, Skinny; 28 Leads; Row Spacing 7.62 mm; Pitch 2.54 mm; Code_JEDEC: MO-095; ComponentLink1Description: Manufacturer Link; ComponentLink1URL: http://www.microchip.com; ComponentLink2Description: Datasheet; ComponentLink2URL: http://ww1.microchip.com/downloads/en/DeviceDoc/30559a.pdf; ComponentLink3Description: Packaging Specification; ComponentLink3URL: http://ww1.microchip.com/downloads/en/PackagingSpec/00049AD.pdf
footprint PDIP300-28 (DIP, Plastic, Skinny; 28 Leads; Row Spacing 7.62 mm; Pitch 2.54 mm)
3D model PDIP300-28 (DIP, Plastic, Skinny; 28 Leads; Row Spacing 7.62 mm; Pitch 2.54 mm)
pins: 1 ~{MCLR}/VPP (in), 2 RA0/AN0 (io), 3 RA1/AN1 (io), 4 RA2/AN2/VREF (io), 5 RA3/AN3 (io), 6 RA4/T0CKI (io), 7 RA5 (io), 8 VSS (power), 9 OSC1/CLKIN (in), 10 OSC2/CLKOUT (out), 11 RC0 (io), 12 RC1 (io), 13 RC2 (io), 14 RC3 (io), 15 RC4 (io), 16 RC5 (io), 17 RC6 (io), 18 RC7 (io), 19 VSS (power), 20 VDD (power), 21 RB0/INT (io), 22 RB1 (io), 23 RB2 (io), 24 RB3 (io), 25 RB4 (io), 26 RB5 (io), 27 RB6 (io), 28 RB7 (io)

## PIC16C642-10/SO
designator U?
8-Bit EPROM Microcontroller with Analog Comparators, 176 Bytes RAM, 22 I/O Pins, 10 MHz, 28-Pin SOIC, Standard VDD Range, Commercial Temperature; Note: Not recommended for new designs. Consider PIC16F72 instead.; Published: 11-Oct-2004; LatestRevisionDate: 13-Apr-2006; LatestRevisionNote: IPC-7351 Footprint Added.; DatasheetVersion: DS30559A_1996; PackageVersion: 2005; PackageReference: SOIC300-28; Publisher: Altium Limited; PackageDescription: 28-Pin Small Outline Integrated Circuit 1.27 mm Pitch; Code_JEDEC: MS-013; ComponentLink1Description: Manufacturer Link; ComponentLink1URL: http://www.microchip.com; ComponentLink2Description: Datasheet; ComponentLink2URL: http://ww1.microchip.com/downloads/en/DeviceDoc/30559a.pdf; ComponentLink3Description: Packaging Specification; ComponentLink3URL: http://ww1.microchip.com/downloads/en/PackagingSpec/00049AD.pdf
footprint SOIC300-28_N (SOIC, 28-Leads, Body 17.9x7.5mm, Pitch 1.27mm, IPC Medium Density)
footprint SOIC300-28_L (SOIC, 28-Leads, Body 17.9x7.5mm, Pitch 1.27mm, IPC High Density)
footprint SOIC300-28_M (SOIC, 28-Leads, Body 17.9x7.5mm, Pitch 1.27mm, IPC Low Density)
3D model SOIC300-28 (28-Pin Small Outline Integrated Circuit 1.27 mm Pitch)
pins: 1 ~{MCLR}/VPP (in), 2 RA0/AN0 (io), 3 RA1/AN1 (io), 4 RA2/AN2/VREF (io), 5 RA3/AN3 (io), 6 RA4/T0CKI (io), 7 RA5 (io), 8 VSS (power), 9 OSC1/CLKIN (in), 10 OSC2/CLKOUT (out), 11 RC0 (io), 12 RC1 (io), 13 RC2 (io), 14 RC3 (io), 15 RC4 (io), 16 RC5 (io), 17 RC6 (io), 18 RC7 (io), 19 VSS (power), 20 VDD (power), 21 RB0/INT (io), 22 RB1 (io), 23 RB2 (io), 24 RB3 (io), 25 RB4 (io), 26 RB5 (io), 27 RB6 (io), 28 RB7 (io)

## PIC16C642-10/SP
designator U?
8-Bit EPROM Microcontroller with Analog Comparators, 176 Bytes RAM, 22 I/O Pins, 10 MHz, 28-Pin PDIP 300mil, Standard VDD Range, Commercial Temperature; Note: Not recommended for new designs. Consider PIC16F72 instead.; Published: 11-Oct-2004; LatestRevisionDate: 04-Mar-2005; LatestRevisionNote: Stylized 3D Model Added.; DatasheetVersion: DS30559A_1996; PackageVersion: 2003; PackageReference: PDIP300-28; Publisher: Altium Limited; PackageDescription: DIP, Plastic, Skinny; 28 Leads; Row Spacing 7.62 mm; Pitch 2.54 mm; Code_JEDEC: MO-095; ComponentLink1Description: Manufacturer Link; ComponentLink1URL: http://www.microchip.com; ComponentLink2Description: Datasheet; ComponentLink2URL: http://ww1.microchip.com/downloads/en/DeviceDoc/30559a.pdf; ComponentLink3Description: Packaging Specification; ComponentLink3URL: http://ww1.microchip.com/downloads/en/PackagingSpec/00049AD.pdf
footprint PDIP300-28 (DIP, Plastic, Skinny; 28 Leads; Row Spacing 7.62 mm; Pitch 2.54 mm)
3D model PDIP300-28 (DIP, Plastic, Skinny; 28 Leads; Row Spacing 7.62 mm; Pitch 2.54 mm)
pins: 1 ~{MCLR}/VPP (in), 2 RA0/AN0 (io), 3 RA1/AN1 (io), 4 RA2/AN2/VREF (io), 5 RA3/AN3 (io), 6 RA4/T0CKI (io), 7 RA5 (io), 8 VSS (power), 9 OSC1/CLKIN (in), 10 OSC2/CLKOUT (out), 11 RC0 (io), 12 RC1 (io), 13 RC2 (io), 14 RC3 (io), 15 RC4 (io), 16 RC5 (io), 17 RC6 (io), 18 RC7 (io), 19 VSS (power), 20 VDD (power), 21 RB0/INT (io), 22 RB1 (io), 23 RB2 (io), 24 RB3 (io), 25 RB4 (io), 26 RB5 (io), 27 RB6 (io), 28 RB7 (io)

## PIC16C642-10E/SO
designator U?
8-Bit EPROM Microcontroller with Analog Comparators, 176 Bytes RAM, 22 I/O Pins, 10 MHz, 28-Pin SOIC, Standard VDD Range, Extended Temperature; Note: Not recommended for new designs. Consider PIC16F72 instead.; Published: 11-Oct-2004; LatestRevisionDate: 13-Apr-2006; LatestRevisionNote: IPC-7351 Footprint Added.; DatasheetVersion: DS30559A_1996; PackageVersion: 2005; PackageReference: SOIC300-28; Publisher: Altium Limited; PackageDescription: 28-Pin Small Outline Integrated Circuit 1.27 mm Pitch; Code_JEDEC: MS-013; ComponentLink1Description: Manufacturer Link; ComponentLink1URL: http://www.microchip.com; ComponentLink2Description: Datasheet; ComponentLink2URL: http://ww1.microchip.com/downloads/en/DeviceDoc/30559a.pdf; ComponentLink3Description: Packaging Specification; ComponentLink3URL: http://ww1.microchip.com/downloads/en/PackagingSpec/00049AD.pdf
footprint SOIC300-28_N (SOIC, 28-Leads, Body 17.9x7.5mm, Pitch 1.27mm, IPC Medium Density)
footprint SOIC300-28_L (SOIC, 28-Leads, Body 17.9x7.5mm, Pitch 1.27mm, IPC High Density)
footprint SOIC300-28_M (SOIC, 28-Leads, Body 17.9x7.5mm, Pitch 1.27mm, IPC Low Density)
3D model SOIC300-28 (28-Pin Small Outline Integrated Circuit 1.27 mm Pitch)
pins: 1 ~{MCLR}/VPP (in), 2 RA0/AN0 (io), 3 RA1/AN1 (io), 4 RA2/AN2/VREF (io), 5 RA3/AN3 (io), 6 RA4/T0CKI (io), 7 RA5 (io), 8 VSS (power), 9 OSC1/CLKIN (in), 10 OSC2/CLKOUT (out), 11 RC0 (io), 12 RC1 (io), 13 RC2 (io), 14 RC3 (io), 15 RC4 (io), 16 RC5 (io), 17 RC6 (io), 18 RC7 (io), 19 VSS (power), 20 VDD (power), 21 RB0/INT (io), 22 RB1 (io), 23 RB2 (io), 24 RB3 (io), 25 RB4 (io), 26 RB5 (io), 27 RB6 (io), 28 RB7 (io)

## PIC16C642-10E/SP
designator U?
8-Bit EPROM Microcontroller with Analog Comparators, 176 Bytes RAM, 22 I/O Pins, 10 MHz, 28-Pin PDIP 300mil, Standard VDD Range, Extended Temperature; Note: Not recommended for new designs. Consider PIC16F72 instead.; Published: 11-Oct-2004; LatestRevisionDate: 04-Mar-2005; LatestRevisionNote: Stylized 3D Model Added.; DatasheetVersion: DS30559A_1996; PackageVersion: 2003; PackageReference: PDIP300-28; Publisher: Altium Limited; PackageDescription: DIP, Plastic, Skinny; 28 Leads; Row Spacing 7.62 mm; Pitch 2.54 mm; Code_JEDEC: MO-095; ComponentLink1Description: Manufacturer Link; ComponentLink1URL: http://www.microchip.com; ComponentLink2Description: Datasheet; ComponentLink2URL: http://ww1.microchip.com/downloads/en/DeviceDoc/30559a.pdf; ComponentLink3Description: Packaging Specification; ComponentLink3URL: http://ww1.microchip.com/downloads/en/PackagingSpec/00049AD.pdf
footprint PDIP300-28 (DIP, Plastic, Skinny; 28 Leads; Row Spacing 7.62 mm; Pitch 2.54 mm)
3D model PDIP300-28 (DIP, Plastic, Skinny; 28 Leads; Row Spacing 7.62 mm; Pitch 2.54 mm)
pins: 1 ~{MCLR}/VPP (in), 2 RA0/AN0 (io), 3 RA1/AN1 (io), 4 RA2/AN2/VREF (io), 5 RA3/AN3 (io), 6 RA4/T0CKI (io), 7 RA5 (io), 8 VSS (power), 9 OSC1/CLKIN (in), 10 OSC2/CLKOUT (out), 11 RC0 (io), 12 RC1 (io), 13 RC2 (io), 14 RC3 (io), 15 RC4 (io), 16 RC5 (io), 17 RC6 (io), 18 RC7 (io), 19 VSS (power), 20 VDD (power), 21 RB0/INT (io), 22 RB1 (io), 23 RB2 (io), 24 RB3 (io), 25 RB4 (io), 26 RB5 (io), 27 RB6 (io), 28 RB7 (io)

## PIC16C642-10I/SO
designator U?
8-Bit EPROM Microcontroller with Analog Comparators, 176 Bytes RAM, 22 I/O Pins, 10 MHz, 28-Pin SOIC, Standard VDD Range, Industrial Temperature; Note: Not recommended for new designs. Consider PIC16F72 instead.; Published: 11-Oct-2004; LatestRevisionDate: 13-Apr-2006; LatestRevisionNote: IPC-7351 Footprint Added.; DatasheetVersion: DS30559A_1996; PackageVersion: 2005; PackageReference: SOIC300-28; Publisher: Altium Limited; PackageDescription: 28-Pin Small Outline Integrated Circuit 1.27 mm Pitch; Code_JEDEC: MS-013; ComponentLink1Description: Manufacturer Link; ComponentLink1URL: http://www.microchip.com; ComponentLink2Description: Datasheet; ComponentLink2URL: http://ww1.microchip.com/downloads/en/DeviceDoc/30559a.pdf; ComponentLink3Description: Packaging Specification; ComponentLink3URL: http://ww1.microchip.com/downloads/en/PackagingSpec/00049AD.pdf
footprint SOIC300-28_N (SOIC, 28-Leads, Body 17.9x7.5mm, Pitch 1.27mm, IPC Medium Density)
footprint SOIC300-28_L (SOIC, 28-Leads, Body 17.9x7.5mm, Pitch 1.27mm, IPC High Density)
footprint SOIC300-28_M (SOIC, 28-Leads, Body 17.9x7.5mm, Pitch 1.27mm, IPC Low Density)
3D model SOIC300-28 (28-Pin Small Outline Integrated Circuit 1.27 mm Pitch)
pins: 1 ~{MCLR}/VPP (in), 2 RA0/AN0 (io), 3 RA1/AN1 (io), 4 RA2/AN2/VREF (io), 5 RA3/AN3 (io), 6 RA4/T0CKI (io), 7 RA5 (io), 8 VSS (power), 9 OSC1/CLKIN (in), 10 OSC2/CLKOUT (out), 11 RC0 (io), 12 RC1 (io), 13 RC2 (io), 14 RC3 (io), 15 RC4 (io), 16 RC5 (io), 17 RC6 (io), 18 RC7 (io), 19 VSS (power), 20 VDD (power), 21 RB0/INT (io), 22 RB1 (io), 23 RB2 (io), 24 RB3 (io), 25 RB4 (io), 26 RB5 (io), 27 RB6 (io), 28 RB7 (io)

## PIC16C642-10I/SP
designator U?
8-Bit EPROM Microcontroller with Analog Comparators, 176 Bytes RAM, 22 I/O Pins, 10 MHz, 28-Pin PDIP 300mil, Standard VDD Range, Industrial Temperature; Note: Not recommended for new designs. Consider PIC16F72 instead.; Published: 11-Oct-2004; LatestRevisionDate: 04-Mar-2005; LatestRevisionNote: Stylized 3D Model Added.; DatasheetVersion: DS30559A_1996; PackageVersion: 2003; PackageReference: PDIP300-28; Publisher: Altium Limited; PackageDescription: DIP, Plastic, Skinny; 28 Leads; Row Spacing 7.62 mm; Pitch 2.54 mm; Code_JEDEC: MO-095; ComponentLink1Description: Manufacturer Link; ComponentLink1URL: http://www.microchip.com; ComponentLink2Description: Datasheet; ComponentLink2URL: http://ww1.microchip.com/downloads/en/DeviceDoc/30559a.pdf; ComponentLink3Description: Packaging Specification; ComponentLink3URL: http://ww1.microchip.com/downloads/en/PackagingSpec/00049AD.pdf
footprint PDIP300-28 (DIP, Plastic, Skinny; 28 Leads; Row Spacing 7.62 mm; Pitch 2.54 mm)
3D model PDIP300-28 (DIP, Plastic, Skinny; 28 Leads; Row Spacing 7.62 mm; Pitch 2.54 mm)
pins: 1 ~{MCLR}/VPP (in), 2 RA0/AN0 (io), 3 RA1/AN1 (io), 4 RA2/AN2/VREF (io), 5 RA3/AN3 (io), 6 RA4/T0CKI (io), 7 RA5 (io), 8 VSS (power), 9 OSC1/CLKIN (in), 10 OSC2/CLKOUT (out), 11 RC0 (io), 12 RC1 (io), 13 RC2 (io), 14 RC3 (io), 15 RC4 (io), 16 RC5 (io), 17 RC6 (io), 18 RC7 (io), 19 VSS (power), 20 VDD (power), 21 RB0/INT (io), 22 RB1 (io), 23 RB2 (io), 24 RB3 (io), 25 RB4 (io), 26 RB5 (io), 27 RB6 (io), 28 RB7 (io)

## PIC16C642-20/SO
designator U?
8-Bit EPROM Microcontroller with Analog Comparators, 176 Bytes RAM, 22 I/O Pins, 20 MHz, 28-Pin SOIC, Standard VDD Range, Commercial Temperature; Note: Not recommended for new designs. Consider PIC16F72 instead.; Published: 11-Oct-2004; LatestRevisionDate: 13-Apr-2006; LatestRevisionNote: IPC-7351 Footprint Added.; DatasheetVersion: DS30559A_1996; PackageVersion: 2005; PackageReference: SOIC300-28; Publisher: Altium Limited; PackageDescription: 28-Pin Small Outline Integrated Circuit 1.27 mm Pitch; Code_JEDEC: MS-013; ComponentLink1Description: Manufacturer Link; ComponentLink1URL: http://www.microchip.com; ComponentLink2Description: Datasheet; ComponentLink2URL: http://ww1.microchip.com/downloads/en/DeviceDoc/30559a.pdf; ComponentLink3Description: Packaging Specification; ComponentLink3URL: http://ww1.microchip.com/downloads/en/PackagingSpec/00049AD.pdf
footprint SOIC300-28_N (SOIC, 28-Leads, Body 17.9x7.5mm, Pitch 1.27mm, IPC Medium Density)
footprint SOIC300-28_L (SOIC, 28-Leads, Body 17.9x7.5mm, Pitch 1.27mm, IPC High Density)
footprint SOIC300-28_M (SOIC, 28-Leads, Body 17.9x7.5mm, Pitch 1.27mm, IPC Low Density)
3D model SOIC300-28 (28-Pin Small Outline Integrated Circuit 1.27 mm Pitch)
pins: 1 ~{MCLR}/VPP (in), 2 RA0/AN0 (io), 3 RA1/AN1 (io), 4 RA2/AN2/VREF (io), 5 RA3/AN3 (io), 6 RA4/T0CKI (io), 7 RA5 (io), 8 VSS (power), 9 OSC1/CLKIN (in), 10 OSC2/CLKOUT (out), 11 RC0 (io), 12 RC1 (io), 13 RC2 (io), 14 RC3 (io), 15 RC4 (io), 16 RC5 (io), 17 RC6 (io), 18 RC7 (io), 19 VSS (power), 20 VDD (power), 21 RB0/INT (io), 22 RB1 (io), 23 RB2 (io), 24 RB3 (io), 25 RB4 (io), 26 RB5 (io), 27 RB6 (io), 28 RB7 (io)

## PIC16C642-20/SP
designator U?
8-Bit EPROM Microcontroller with Analog Comparators, 176 Bytes RAM, 22 I/O Pins, 20 MHz, 28-Pin PDIP 300mil, Standard VDD Range, Commercial Temperature; Note: Not recommended for new designs. Consider PIC16F72 instead.; Published: 11-Oct-2004; LatestRevisionDate: 04-Mar-2005; LatestRevisionNote: Stylized 3D Model Added.; DatasheetVersion: DS30559A_1996; PackageVersion: 2003; PackageReference: PDIP300-28; Publisher: Altium Limited; PackageDescription: DIP, Plastic, Skinny; 28 Leads; Row Spacing 7.62 mm; Pitch 2.54 mm; Code_JEDEC: MO-095; ComponentLink1Description: Manufacturer Link; ComponentLink1URL: http://www.microchip.com; ComponentLink2Description: Datasheet; ComponentLink2URL: http://ww1.microchip.com/downloads/en/DeviceDoc/30559a.pdf; ComponentLink3Description: Packaging Specification; ComponentLink3URL: http://ww1.microchip.com/downloads/en/PackagingSpec/00049AD.pdf
footprint PDIP300-28 (DIP, Plastic, Skinny; 28 Leads; Row Spacing 7.62 mm; Pitch 2.54 mm)
3D model PDIP300-28 (DIP, Plastic, Skinny; 28 Leads; Row Spacing 7.62 mm; Pitch 2.54 mm)
pins: 1 ~{MCLR}/VPP (in), 2 RA0/AN0 (io), 3 RA1/AN1 (io), 4 RA2/AN2/VREF (io), 5 RA3/AN3 (io), 6 RA4/T0CKI (io), 7 RA5 (io), 8 VSS (power), 9 OSC1/CLKIN (in), 10 OSC2/CLKOUT (out), 11 RC0 (io), 12 RC1 (io), 13 RC2 (io), 14 RC3 (io), 15 RC4 (io), 16 RC5 (io), 17 RC6 (io), 18 RC7 (io), 19 VSS (power), 20 VDD (power), 21 RB0/INT (io), 22 RB1 (io), 23 RB2 (io), 24 RB3 (io), 25 RB4 (io), 26 RB5 (io), 27 RB6 (io), 28 RB7 (io)

## PIC16C642-20E/SO
designator U?
8-Bit EPROM Microcontroller with Analog Comparators, 176 Bytes RAM, 22 I/O Pins, 20 MHz, 28-Pin SOIC, Standard VDD Range, Extended Temperature; Note: Not recommended for new designs. Consider PIC16F72 instead.; Published: 11-Oct-2004; LatestRevisionDate: 13-Apr-2006; LatestRevisionNote: IPC-7351 Footprint Added.; DatasheetVersion: DS30559A_1996; PackageVersion: 2005; PackageReference: SOIC300-28; Publisher: Altium Limited; PackageDescription: 28-Pin Small Outline Integrated Circuit 1.27 mm Pitch; Code_JEDEC: MS-013; ComponentLink1Description: Manufacturer Link; ComponentLink1URL: http://www.microchip.com; ComponentLink2Description: Datasheet; ComponentLink2URL: http://ww1.microchip.com/downloads/en/DeviceDoc/30559a.pdf; ComponentLink3Description: Packaging Specification; ComponentLink3URL: http://ww1.microchip.com/downloads/en/PackagingSpec/00049AD.pdf
footprint SOIC300-28_N (SOIC, 28-Leads, Body 17.9x7.5mm, Pitch 1.27mm, IPC Medium Density)
footprint SOIC300-28_L (SOIC, 28-Leads, Body 17.9x7.5mm, Pitch 1.27mm, IPC High Density)
footprint SOIC300-28_M (SOIC, 28-Leads, Body 17.9x7.5mm, Pitch 1.27mm, IPC Low Density)
3D model SOIC300-28 (28-Pin Small Outline Integrated Circuit 1.27 mm Pitch)
pins: 1 ~{MCLR}/VPP (in), 2 RA0/AN0 (io), 3 RA1/AN1 (io), 4 RA2/AN2/VREF (io), 5 RA3/AN3 (io), 6 RA4/T0CKI (io), 7 RA5 (io), 8 VSS (power), 9 OSC1/CLKIN (in), 10 OSC2/CLKOUT (out), 11 RC0 (io), 12 RC1 (io), 13 RC2 (io), 14 RC3 (io), 15 RC4 (io), 16 RC5 (io), 17 RC6 (io), 18 RC7 (io), 19 VSS (power), 20 VDD (power), 21 RB0/INT (io), 22 RB1 (io), 23 RB2 (io), 24 RB3 (io), 25 RB4 (io), 26 RB5 (io), 27 RB6 (io), 28 RB7 (io)

## PIC16C642-20E/SP
designator U?
8-Bit EPROM Microcontroller with Analog Comparators, 176 Bytes RAM, 22 I/O Pins, 20 MHz, 28-Pin PDIP 300mil, Standard VDD Range, Extended Temperature; Note: Not recommended for new designs. Consider PIC16F72 instead.; Published: 11-Oct-2004; LatestRevisionDate: 04-Mar-2005; LatestRevisionNote: Stylized 3D Model Added.; DatasheetVersion: DS30559A_1996; PackageVersion: 2003; PackageReference: PDIP300-28; Publisher: Altium Limited; PackageDescription: DIP, Plastic, Skinny; 28 Leads; Row Spacing 7.62 mm; Pitch 2.54 mm; Code_JEDEC: MO-095; ComponentLink1Description: Manufacturer Link; ComponentLink1URL: http://www.microchip.com; ComponentLink2Description: Datasheet; ComponentLink2URL: http://ww1.microchip.com/downloads/en/DeviceDoc/30559a.pdf; ComponentLink3Description: Packaging Specification; ComponentLink3URL: http://ww1.microchip.com/downloads/en/PackagingSpec/00049AD.pdf
footprint PDIP300-28 (DIP, Plastic, Skinny; 28 Leads; Row Spacing 7.62 mm; Pitch 2.54 mm)
3D model PDIP300-28 (DIP, Plastic, Skinny; 28 Leads; Row Spacing 7.62 mm; Pitch 2.54 mm)
pins: 1 ~{MCLR}/VPP (in), 2 RA0/AN0 (io), 3 RA1/AN1 (io), 4 RA2/AN2/VREF (io), 5 RA3/AN3 (io), 6 RA4/T0CKI (io), 7 RA5 (io), 8 VSS (power), 9 OSC1/CLKIN (in), 10 OSC2/CLKOUT (out), 11 RC0 (io), 12 RC1 (io), 13 RC2 (io), 14 RC3 (io), 15 RC4 (io), 16 RC5 (io), 17 RC6 (io), 18 RC7 (io), 19 VSS (power), 20 VDD (power), 21 RB0/INT (io), 22 RB1 (io), 23 RB2 (io), 24 RB3 (io), 25 RB4 (io), 26 RB5 (io), 27 RB6 (io), 28 RB7 (io)